# Altium footprint library SOT95P230X110-3N.PcbLib: 1 footprints
Each footprint in its own frame and in the unit in brackets; x right, y up, seen from the top. Pads: shape width x height; smd on the part's side, far side on the other; paste and mask are expansions set on the pad; w line width, h text height; cw(c..) or ccw(c..) is an arc to the next point about the centre after c.
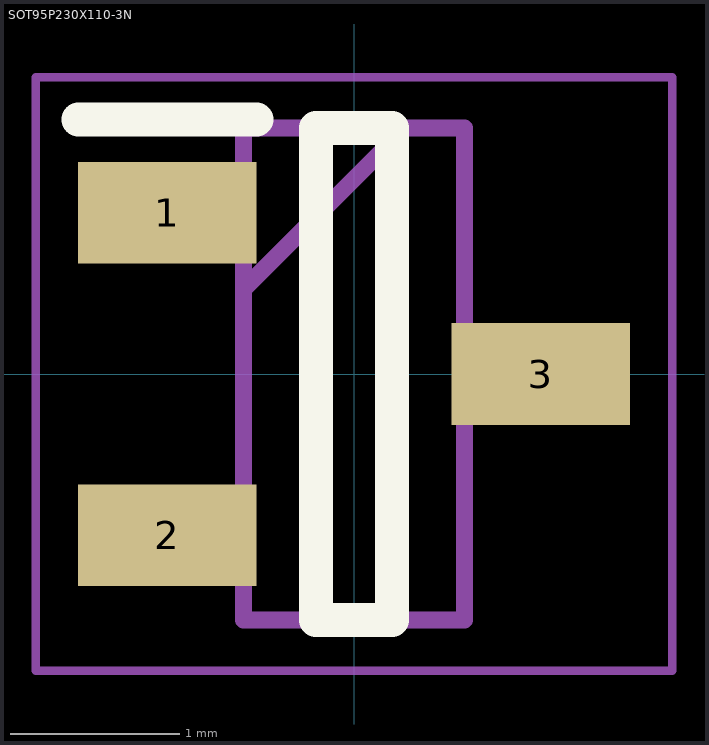
[diagram p0: the footprint, top view; thin cyan lines are the x and y axes]

## SOT95P230X110-3N [mm]
pads (3):
  rect 1.05x0.6 smd: 1(-1.1,0.95) 2(-1.1,-0.95) 3(1.1,0)
Top Overlay:
  lines w0.2: -1.625,1.5 -0.575,1.5 ; -0.225,-1.45 0.225,-1.45 0.225,1.45 -0.225,1.45 -0.225,-1.45
Mechanical 15:
  lines w0.1: -0.65,0.5 0.3,1.45 ; -0.65,-1.45 0.65,-1.45 0.65,1.45 -0.65,1.45 -0.65,-1.45
Mechanical 20:
  lines w0.05: -1.875,-1.75 1.875,-1.75 1.875,1.75 -1.875,1.75 -1.875,-1.75